# EAGLE library part THR_10-4811WI (library THR_10-4811WI)
10 Watt DC/DC converter, industrial, 4:1 input, reinforced isolation (3000 VAC), encapsulated, 2"x1"
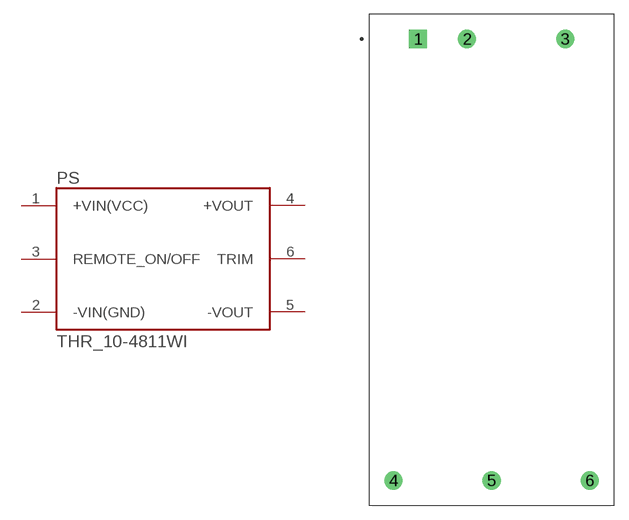
[diagram p0: symbol with the pads of CONV_THR_10-4811WI; footprint CONV_THR_10-4811WI]

Designator prefix PS

## THR_10-4811WI (Description: 10 Watt DC/DC converter, industrial, 4:1 input, reinforced isolation (3000 VAC), encapsulated, 2x1; Digi-Key_Part_Number: 1951-THR10-4811WI-ND; MF: Traco Power; MP: THR 10-4811WI; Package: DIP-6 Traco Power; Purchase-URL: https://pricing.snapeda.com/search/part/THR 10-4811WI/?ref=eda)  [CONV_THR_10-4811WI]
1  +VIN(VCC)  in
2  -VIN(GND)  in
3  REMOTE_ON/OFF  in
4  +VOUT  out
5  -VOUT  out
6  TRIM  pas

## Footprint CONV_THR_10-4811WI (pad centres in mm)
drill 1.25 square: 1 -7.62,22.86
drill 1.25: 2 -2.54,22.86; 3 7.62,22.86; 4 -10.16,-22.86; 5 0,-22.86; 6 10.16,-22.86